# EAGLE library part FONA_800_BREAKOUT (library TepmachchaMk2)
Adafruit FONA 800 H or L breakout board footprint and dimensions
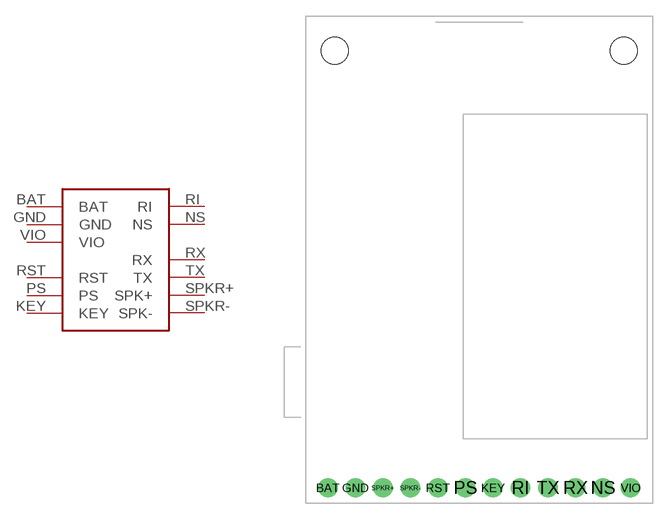
[diagram p1: symbol with the pads of FONA_800_H_L_BREAKOUT; footprint FONA_800_H_L_BREAKOUT]

Designator prefix -

## FONA_800_BREAKOUTONE  [FONA_800_H_L_BREAKOUT]
BAT  BAT  pwr
GND  GND  pwr
KEY  KEY
NS  NS
PS  PS
RI  RI
RST  RST
RX  RX
SPKR+  SPK+
SPKR-  SPK-
TX  TX
VIO  VIO

## Footprint FONA_800_H_L_BREAKOUT (pad centres in mm)
drill 0.9 pad 1.778: BAT -13.97,-21.04; GND -11.43,-21.04; KEY 1.27,-21.04; NS 11.43,-21.04; PS -1.27,-21.04; RI 3.81,-21.04; RST -3.81,-21.04; RX 8.89,-21.04; SPKR+ -8.89,-21.04; SPKR- -6.35,-21.04; TX 6.35,-21.04; VIO 13.97,-21.04
hole 2.5 at -13.335,19.346
hole 2.5 at 13.335,19.346